# EAGLE library part 8P8C-4P (library con-rj45)
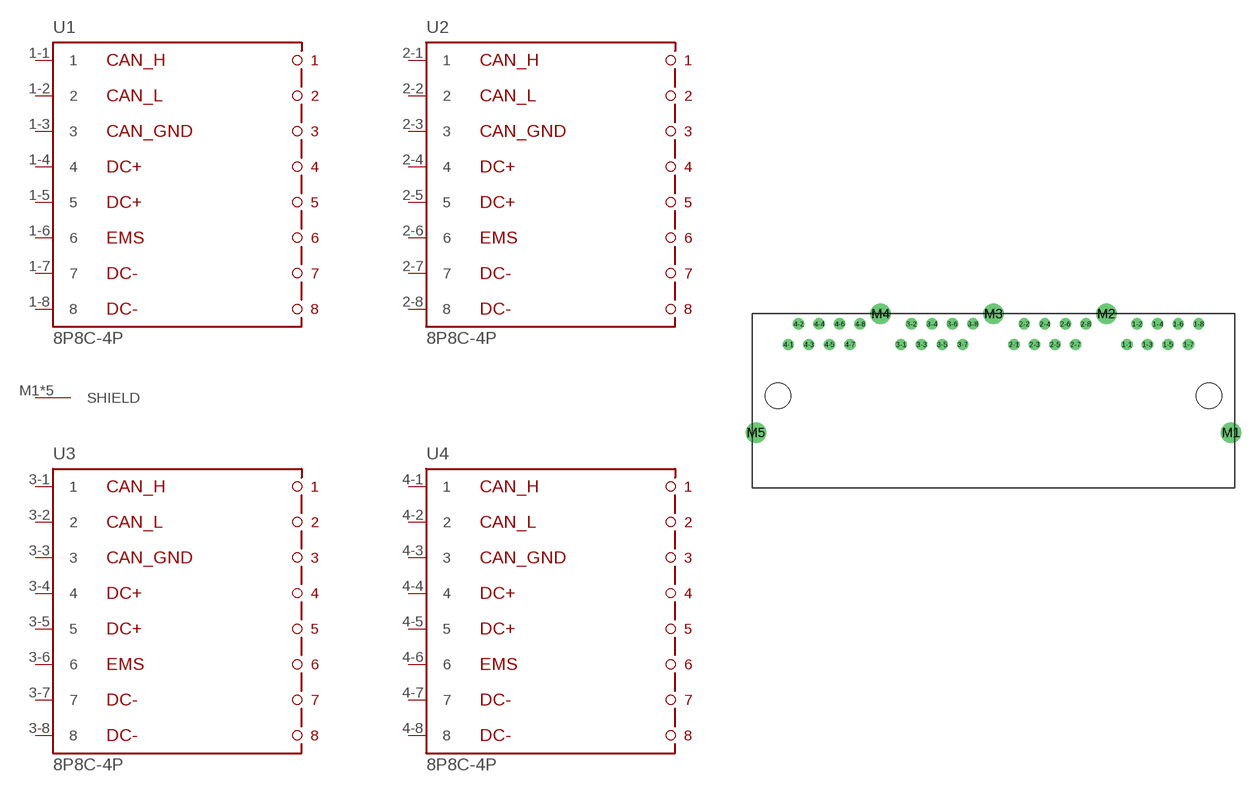
[diagram p1: symbol with the pads of 8P8C-4P; footprint 8P8C-4P]

Designator prefix -; gates 1=8P8C 2=8P8C 3=8P8C 4=8P8C G$1=SHIELD

## 8P8C-4P  [8P8C-4P]
1-1  1:1  in
1-2  1:2  in
1-3  1:3  in
1-4  1:4  in
1-5  1:5  in
1-6  1:6  in
1-7  1:7  in
1-8  1:8  in
2-1  2:1  in
2-2  2:2  in
2-3  2:3  in
2-4  2:4  in
2-5  2:5  in
2-6  2:6  in
2-7  2:7  in
2-8  2:8  in
3-1  3:1  in
3-2  3:2  in
3-3  3:3  in
3-4  3:4  in
3-5  3:5  in
3-6  3:6  in
3-7  3:7  in
3-8  3:8  in
4-1  4:1  in
4-2  4:2  in
4-3  4:3  in
4-4  4:4  in
4-5  4:5  in
4-6  4:6  in
4-7  4:7  in
4-8  4:8  in
M1  G$1:SHIELD  pas
M2  G$1:SHIELD  pas
M3  G$1:SHIELD  pas
M4  G$1:SHIELD  pas
M5  G$1:SHIELD  pas

## Footprint 8P8C-4P (pad centres in mm)
drill 0.9 pad 1.3: 1-1 16.51,-3.81; 1-2 17.78,-1.27; 1-3 19.05,-3.81; 1-4 20.32,-1.27; 1-5 21.59,-3.81; 1-6 22.86,-1.27; 1-7 24.13,-3.81; 1-8 25.4,-1.27; 2-1 2.54,-3.81; 2-2 3.81,-1.27; 2-3 5.08,-3.81; 2-4 6.35,-1.27; 2-5 7.62,-3.81; 2-6 8.89,-1.27; 2-7 10.16,-3.81; 2-8 11.43,-1.27; 3-1 -11.43,-3.81; 3-2 -10.16,-1.27; 3-3 -8.89,-3.81; 3-4 -7.62,-1.27; 3-5 -6.35,-3.81; 3-6 -5.08,-1.27; 3-7 -3.81,-3.81; 3-8 -2.54,-1.27; 4-1 -25.4,-3.81; 4-2 -24.13,-1.27; 4-3 -22.86,-3.81; 4-4 -21.59,-1.27; 4-5 -20.32,-3.81; 4-6 -19.05,-1.27; 4-7 -17.78,-3.81; 4-8 -16.51,-1.27
drill 1.7 pad 2.54: M1 29.405,-14.72; M2 13.97,0; M3 0,0; M4 -13.97,0; M5 -29.405,-14.72
hole 3.2 at 26.67,-10.15
hole 3.2 at -26.67,-10.15